# Altium integrated library 74HC165.IntLib: 1 symbol
Pins are listed as number, name and electrical type; pins without a type are passive.

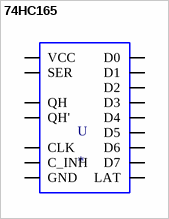
[diagram p0: symbol 74HC165]

## 74HC165
designator U
Shift Shift Register 1 Element 8 Bit 16-SO; MF: Nexperia USA; MP: 74HC165; SnapEDA_Link: https://www.snapeda.com/parts/74HC165/Nexperia%20USA%20Inc./view-part/560686/?ref=snap; Availability: Unavailable; Price: None; Package: VFQFN-16 STMicroelectronics; Value: *
footprint SO-16
pins: 1 LAT (io), 2 CLK (io), 3 D4 (io), 4 D5 (io), 5 D6 (io), 6 D7 (io), 7 QH' (io), 8 GND (io), 9 QH (io), 10 SER (io), 11 D0 (io), 12 D1 (io), 13 D2 (io), 14 D3 (io), 15 C_INH (io), 16 VCC (io)